# EAGLE library part TXB0104 (library Bits_library_eagle)
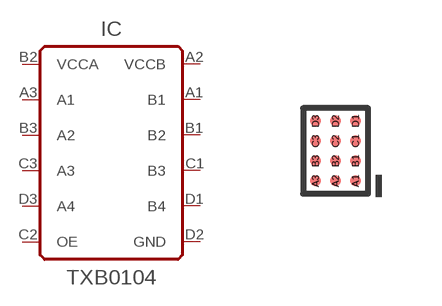
[diagram p22: symbol with the pads of DSBGA-12; footprint DSBGA-12]

Designator prefix IC

## TXB0104  [DSBGA-12]
A1  B1
A2  VCCB  pwr
A3  A1
B1  B2
B2  VCCA  pwr
B3  A2
C1  B3
C2  OE
C3  A3
D1  B4
D2  GND  pwr
D3  A4

## Footprint DSBGA-12 (pad centres in mm)
smd 0.275 x 0.275: A1 0.5,-0.75; A2 0,-0.75; A3 -0.5,-0.75; B1 0.5,-0.25; B2 0,-0.25; B3 -0.5,-0.25; C1 0.5,0.25; C2 0,0.25; C3 -0.5,0.25; D1 0.5,0.75; D2 0,0.75; D3 -0.5,0.75